# Altium schematic symbol library EE194_PCB.SchLib: 47 symbols
Pins are listed as number, name and electrical type; pins without a type are passive.

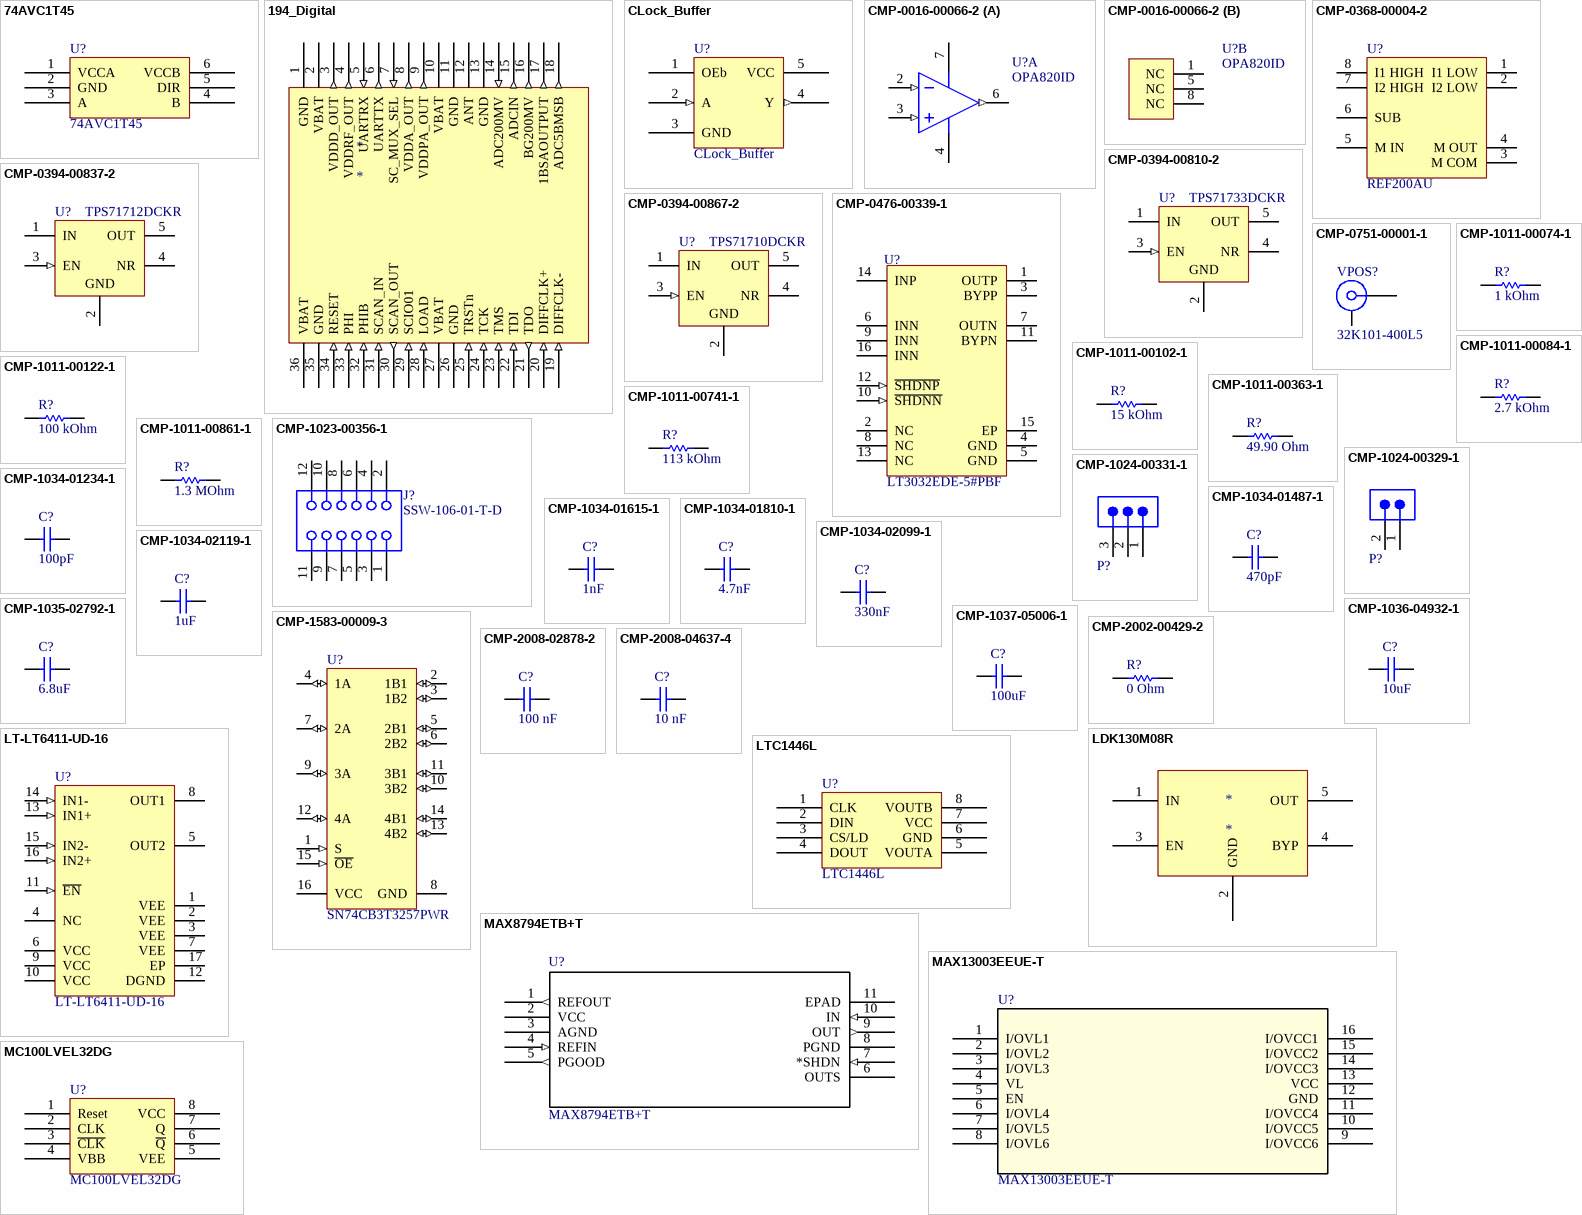
[diagram p0: symbols 74AVC1T45 to MC100LVEL32DG]

## 74AVC1T45
designator U?
footprint ONSC-SC-88-6-419B-02_L (SOT363, 6-Leads, Body 2x1.25mm, Pitch 0.65mm, IPC High Density)
pins: 1 VCCA, 2 GND, 3 A, 4 B, 5 DIR, 6 VCCB

## 194_Digital
designator *
pins: 1 GND (power), 2 VBAT (power), 3 VDDD_OUT (out), 4 VDDRF_OUT (out), 5 UARTRX (in), 6 UARTTX (out), 7 SC_MUX_SEL (in), 8 VDDA_OUT (out), 9 VDDPA_OUT (out), 10 VBAT (power), 11 GND (power), 12 ANT, 13 GND (power), 14 ADC200MV (in), 15 ADCIN (out), 16 BG200MV (out), 17 1BSAOUTPUT (out), 18 ADC5BMSB (out), 19 DIFFCLK- (in), 20 DIFFCLK+ (in), 21 TDO (out), 22 TDI (in), 23 TMS (in), 24 TCK (in), 25 TRSTn (in), 26 GND (power), 27 VBAT (power), 28 LOAD (in), 29 SCIO01 (in), 30 SCAN_OUT (out), 31 SCAN_IN (in), 32 PHIB (in), 33 PHI (in), 34 RESET (in), 35 GND (power), 36 VBAT (power)

## CLock_Buffer
designator U?
footprint SOT95P245X110-5N (SOT23, 5-Leads, Body 2.90x2.45mm, Pitch 0.95mm, IPC Medium Density)
pins: 1 OEb, 2 A (in), 3 GND, 4 Y (out), 5 VCC

## CMP-0016-00066-2
designator U?, comment OPA820ID
Unity Gain Stable, Low Noise, Voltage Feedback Operational Amplifier, 5 to 12 V, -40 to 85 degC, 8-pin SOIC (D8), Green (RoHS & no Sb/Br); Manufacturer: Texas Instruments; Iq per channel(Max)(mA): 6.4; Diff Gain(%): 0.01; THD (Fc is 1 MHz)(Typ)(dB): -85; BW @ Acl(MHz): 700; Vio(Max)(mV): 1; Sub Family: High Output Current Amplifier (>=50mA), High Speed Amplifier (>=50MHz); Iib(Max)(nA): 2300; 3rd Harmonic(dBc): 110; Slew Rate(Typ)(V/us): 240; Vs(Min)(V): 5; Vs(Max)(V): 12; Diff Phase(deg): 0.03; Vn at Flatband(Typ)(nV/rtHz): 2.5; 2nd Harmonic(dBc): 90; Settling Time (0.1%)(Typ)(ns): 26; ComponentLink3URL: http://www.ti.com/litv/pdf/msoi002j; ComponentLink2URL: http://www.ti.com/general/docs/lit/getliterature.tsp?genericPartNumber=OPA820&fileType=pdf; ComponentLink2Description: Datasheet; Code_JEDEC: MS-012; PackageDescription: 8-Pin Plastic Small Outline, Body 4.9 x 3.9 mm, Pitch 1.27 mm; DatasheetVersion: SBOS303C; Acl, min stable gain(V/V): 1; Io(Typ)(mA): 110; PackageReference: D0008A; PartNumber: OPA820ID; Number of Channels: 1; @ MHz: 1; ComponentLink1URL: http://www.ti.com/; PackageVersion: 4040047-3/M, 06/2011; ComponentLink1Description: Manufacturer URL; ComponentLink3Description: Package Specification; Eco-Plan: Green (RoHS & no Sb/Br); Mounting Technology: Surface Mount
footprint D0008A_N (SOIC, 8-Leads, Body 5x4mm, Pitch 1.27mm, IPC Medium Density)
footprint D0008A_L (SOIC, 8-Leads, Body 5x4mm, Pitch 1.27mm, IPC High Density)
footprint D0008A_M (SOIC, 8-Leads, Body 5x4mm, Pitch 1.27mm, IPC Low Density)
part A pins: 2 IN- (in), 3 IN+ (in), 4 VS- (power), 6 OUT (out), 7 VS+ (power)
part B pins: 1 NC, 5 NC, 8 NC

## CMP-0368-00004-2
designator U?, comment REF200AU
Dual Current Source / Current Sink, 2.5 to 40 V, 0.1 mA, -25 to 85 degC, 8-pin SOIC (D), Green (RoHS & no Sb/Br); Manufacturer: Texas Instruments; Iout/Iz(Max)(mA): 0.1; VI(Min)(V): 2.5; VI(Max)(V): 40; SubFamily: Current Reference; Code_JEDEC: MS-012; ComponentLink3URL: http://www.ti.com/litv/pdf/msoi002j; ComponentLink3Description: Package Specification; ComponentLink2Description: Datasheet; PartNumber: REF200AU; DatasheetVersion: SBVS020; ComponentLink2URL: http://www.ti.com/general/docs/lit/getliterature.tsp?genericPartNumber=REF200&fileType=pdf; ComponentLink1Description: Manufacturer URL; PackageVersion: 4040047-3/M; PackageReference: D0008A; ComponentLink1URL: http://www.ti.com/; PackageDescription: 8-Pin Plastic Small Outline, Body 4.9 x 3.9 mm, Pitch 1.27 mm; Eco-Plan: Green (RoHS & no Sb/Br); Mounting Technology: Surface Mount
footprint D0008A_M (SOIC, 8-Leads, Body 5x4mm, Pitch 1.27mm, IPC Low Density)
footprint D0008A_L (SOIC, 8-Leads, Body 5x4mm, Pitch 1.27mm, IPC High Density)
footprint D0008A_N (SOIC, 8-Leads, Body 5x4mm, Pitch 1.27mm, IPC Medium Density)
pins: 1 I1 LOW, 2 I2 LOW, 3 M COM, 4 M OUT, 5 M IN, 6 SUB, 7 I2 HIGH, 8 I1 HIGH

## CMP-0394-00810-2
designator U?, comment TPS71733DCKR
Single Output High PSRR LDO, 150 mA, Fixed 3.3 V Output, 2.5 to 6.5 V Input, with Low IQ, 5-pin SC70 (DCK), -40 to 85 degC, Green (RoHS & no Sb/Br); Manufacturer: Texas Instruments; SubFamily: Single Channel LDO; Vin(Min)(V): 2.5; Iq(Typ)(mA): 0.05; Iout(Max)(A): 0.15; Accuracy(%): 3; Vin(Max)(V): 6.5; Vout Adj(Max)(V): 3.3; Vdo(Typ)(mV): 170; ComponentLink2URL: http://www.ti.com/general/docs/lit/getliterature.tsp?genericPartNumber=TPS71733&fileType=pdf; ComponentLink3URL: http://www.ti.com/litv/pdf/mpds025f; Code_JEDEC: MO-203; PackageReference: DCK0005A; ComponentLink2Description: Datasheet; Mounting Technology: Surface Mount; PackageVersion: 4093553-3/G; PartNumber: TPS71733DCKR; ComponentLink1Description: Manufacturer URL; PackageDescription: 5-Pin Plastic Small-Outline, Body 2 x 1.25 mm, Pitch 0.65 mm; ComponentLink1URL: http://www.ti.com/; ComponentLink3Description: Package Specification; Vout Adj(Min)(V): 3.3; DatasheetVersion: SBVS068G; Eco-Plan: Green (RoHS & no Sb/Br); Fixed Output Options(V): 3.3
footprint DCK0005A_N (SOT23, 5-Leads, Body 2.15x1.4mm, Pitch 0.65mm, IPC Medium Density)
footprint DCK0005A_M (SOT23, 5-Leads, Body 2.15x1.4mm, Pitch 0.65mm, IPC Low Density)
footprint DCK0005A_L (SOT23, 5-Leads, Body 2.15x1.4mm, Pitch 0.65mm, IPC High Density)
pins: 1 IN (power) "Input supply.", 2 GND (power) "Ground.", 3 EN (in) "Driving the enable pin (EN) high turns on the regulator .Driving this pin low puts the regulator into shutdown mode.EN can be connected to IN if not used.", 4 NR "Fixed voltage versions only; connecting an external capacitor to this pin bypasses noise generated by the internal bandgap. This capacitor allows output noise to be reduced to very low levels.", 5 OUT (power) "Output for the regulator. A small capacitor (total typical capacitance >= 2.0uF ceramic) is needed from this pin to ground to assure stability."

## CMP-0394-00837-2
designator U?, comment TPS71712DCKR
Single Output High PSRR LDO, 150 mA, Fixed 1.2 V Output, 2.5 to 6.5 V Input, 5-pin SC70 (DCK), -40 to 125 degC, Green (RoHS & no Sb/Br); Manufacturer: Texas Instruments; Accuracy(%): 3; Fixed Output Options(V): 1.2; Vin(Min)(V): 2.5; SubFamily: Single Channel LDO; Vin(Max)(V): 6.5; Iout(Max)(A): 0.15; Iq(Typ)(mA): 0.05; Vdo(Typ)(mV): 170; DatasheetVersion: SBVS068G; PackageReference: DCK0005A; PartNumber: TPS71712DCKR; ComponentLink3Description: Package Specification; Eco-Plan: Green (RoHS & no Sb/Br); ComponentLink2Description: Datasheet; PackageDescription: 5-Pin Plastic Small-Outline, Body 2 x 1.25 mm, Pitch 0.65 mm; ComponentLink1URL: http://www.ti.com/; ComponentLink1Description: Manufacturer URL; PackageVersion: 4093553-3/G; Vout Adj(Min)(V): 1.2; ComponentLink2URL: http://www.ti.com/general/docs/lit/getliterature.tsp?genericPartNumber=TPS71712&fileType=pdf; Vout Adj(Max)(V): 1.2; ComponentLink3URL: http://www.ti.com/litv/pdf/mpds025f; Mounting Technology: Surface Mount; Code_JEDEC: MO-203
footprint DCK0005A_L (SOT23, 5-Leads, Body 2.15x1.4mm, Pitch 0.65mm, IPC High Density)
footprint DCK0005A_N (SOT23, 5-Leads, Body 2.15x1.4mm, Pitch 0.65mm, IPC Medium Density)
footprint DCK0005A_M (SOT23, 5-Leads, Body 2.15x1.4mm, Pitch 0.65mm, IPC Low Density)
pins: 1 IN (power) "Input supply.", 2 GND (power) "Ground.", 3 EN (in) "Driving the enable pin (EN) high turns on the regulator .Driving this pin low puts the regulator into shutdown mode.EN can be connected to IN if not used.", 4 NR "Fixed voltage versions only; connecting an external capacitor to this pin bypasses noise generated by the internal bandgap. This capacitor allows output noise to be reduced to very low levels.", 5 OUT (power) "Output for the regulator. A small capacitor (total typical capacitance >= 2.0uF ceramic) is needed from this pin to ground to assure stability."

## CMP-0394-00867-2
designator U?, comment TPS71710DCKR
Single Output High PSRR LDO, 150 mA, Fixed 1 V Output, 2.5 to 6.5 V Input, with Low IQ, 5-pin SC70 (DCK), -40 to 85 degC, Green (RoHS & no Sb/Br); Manufacturer: Texas Instruments; Vin(Min)(V): 2.5; Accuracy(%): 3; Iq(Typ)(mA): 0.05; Vin(Max)(V): 6.5; Iout(Max)(A): 0.15; Vout Adj(Min)(V): 1; Vdo(Typ)(mV): 170; SubFamily: Single Channel LDO; ComponentLink3URL: http://www.ti.com/litv/pdf/mpds025f; Code_JEDEC: MO-203; ComponentLink1URL: http://www.ti.com/; ComponentLink2Description: Datasheet; DatasheetVersion: SBVS068G; PartNumber: TPS71710DCKR; PackageVersion: 4093553-3/G; ComponentLink2URL: http://www.ti.com/general/docs/lit/getliterature.tsp?genericPartNumber=TPS71710&fileType=pdf; Eco-Plan: Green (RoHS & no Sb/Br); ComponentLink1Description: Manufacturer URL; PackageReference: DCK0005A; Vout Adj(Max)(V): 1; Mounting Technology: Surface Mount; Fixed Output Options(V): 1; PackageDescription: 5-Pin Plastic Small-Outline, Body 2 x 1.25 mm, Pitch 0.65 mm; ComponentLink3Description: Package Specification
footprint DCK0005A_N (SOT23, 5-Leads, Body 2.15x1.4mm, Pitch 0.65mm, IPC Medium Density)
footprint DCK0005A_M (SOT23, 5-Leads, Body 2.15x1.4mm, Pitch 0.65mm, IPC Low Density)
footprint DCK0005A_L (SOT23, 5-Leads, Body 2.15x1.4mm, Pitch 0.65mm, IPC High Density)
pins: 1 IN (power) "Input supply.", 2 GND (power) "Ground.", 3 EN (in) "Driving the enable pin (EN) high turns on the regulator .Driving this pin low puts the regulator into shutdown mode.EN can be connected to IN if not used.", 4 NR "Fixed voltage versions only; connecting an external capacitor to this pin bypasses noise generated by the internal bandgap. This capacitor allows output noise to be reduced to very low levels.", 5 OUT (power) "Output for the regulator. A small capacitor (total typical capacitance >= 2.0uF ceramic) is needed from this pin to ground to assure stability."

## CMP-0476-00339-1
designator U?, comment LT3032EDE-5#PBF
Dual 150 mA Positive / Negative Low Noise Low Dropout Linear Regulator, +/-2.3 to +/-20 V Vin, +/-5 V Vout, 14-pin SON (DE14MA-14), -40 to 125 degC, Pb-Free; Manufacturer: Linear Technology; Noise(uV): 30; PSRR(dB): 68; Dropout Voltage(V): 0.3; Iout(mA): 150; Output Voltage: +/-5 V; Isupply(mA): 0.025; Shutdown Current(uA): 0.1; Number of Outputs: 2; Discrete Pass Element: no; ComponentLink2Description: Datasheet; Mounting Technology: Surface Mount; ComponentLink3Description: Package Specification; PackageDescription: 14-Pin Plastic DFN, Body 4 x 3 mm, Pitch 0.5 mm; ComponentLink3URL: http://cds.linear.com/docs/en/packaging/DFN_14_05-08-1731.pdf; ComponentLink2URL: http://cds.linear.com/docs/en/datasheet/3032fd.pdf; Vout Min(V): +/-5; Vout Max(V): +/-5; RoHS: TRUE; Vin Max(V): +/-20; PartNumber: LT3032EDE-5#PBF; ComponentLink1URL: http://www.linear.com/; DatasheetVersion: Rev. D; Vin Min(V): +/-2.3; ComponentLink1Description: Manufacturer URL; PackageVersion: Rev. A, 06/2010; PackageReference: DE14MA-14
footprint LT-DE14MA-14_V (DE14MA, 14-Leads, Body 4x3mm, Pitch 0.5mm)
pins: 1 OUTP (power) "Positive Output. This output supplies power to the positive side load. A minimum output capacitor of 2.2uF is required to prevent oscillations. Larger output capacitors are required for applications with large transient (See Datasheet)", 2 NC "No Connect. The No Connect pin has no connection to internal circuitry and may be tied to INP, GND, INN, S\H\D\N\P\, S\H\D\N\N\, OUTP, OUTN, floated, or tied to any other point.", 3 BYPP "Positive Bypass. The BYPP pin is used to bypass the reference of the positive side regulator to achieve low noise performance. The BYPP pin is clamped internally to +/-0.6V (one VBE). A small capacitor from OUTP to this pin (See Datasheet)", 4 GND (power) "Ground. One of the DFN's exposed backside pads (Pin 15) is an electrical connection to ground. To ensure proper electrical and thermal performance, solder Pin 15 to the PCB's ground and tie directly to Pins 4 and(See Datasheet)", 5 GND (power) "Ground. One of the DFN's exposed backside pads (Pin 15) is an electrical connection to ground. To ensure proper electrical and thermal performance, solder Pin 15 to the PCB's ground and tie directly to Pins 4 and(See Datasheet)", 6 INN (power) "Negative Input. The DFN package's second exposed backside pad (Pin 16) is an electrical connection to INN. To ensure proper electrical and thermal performance, solder Pin 16 to the PCB's negative input supply and (See Datasheet)", 7 OUTN (power) "Negative Output. This output supplies power to the negative side load. A minimum output capacitor of 1uF is required to prevent oscillations. Larger output capacitors are required for applications with large transient loads (See Datasheet)", 8 NC "No Connect. The No Connect pin has no connection to internal circuitry and may be tied to INP, GND, INN, S\H\D\N\P\, S\H\D\N\N\, OUTP, OUTN, floated, or tied to any other point.", 9 INN (power) "Negative Input. The DFN package's second exposed backside pad (Pin 16) is an electrical connection to INN. To ensure proper electrical and thermal performance, solder Pin 16 to the PCB's negative input supply and (See Datasheet)", 10 ~{SHDNN} (in) "Negative Shutdown. The S\H\D\N\N\ pin puts the negative side into a low power shutdown state. The S\H\D\N\N\ pin is referenced to ground for regulator control, allowing the negative side to be driven by either positive or (See Datasheet)", 11 BYPN "Negative Bypass. The BYPN pin is used to bypass the reference of the negative side regulator to achieve low noise performance. A small capacitor from OUTN to this pin will bypass the reference to lower the output voltage (See Datasheet)", 12 ~{SHDNP} (in) "Positive Shutdown. The S\H\D\N\P\ pin puts the positive side into a low power shutdown state. The positive output will be off when the S\H\D\N\P\ pin is pulled below 0.6V(typical). The S\H\D\N\P\ pin can be driven by 5V (See Datasheet)", 13 NC "No Connect. The No Connect pin has no connection to internal circuitry and may be tied to INP, GND, INN, S\H\D\N\P\, S\H\D\N\N\, OUTP, OUTN, floated, or tied to any other point.", 14 INP (power) "Positive Input. Power is supplied to the positive side of the LT3032 through the INP pin. A bypass capacitor is required on this pin if it is more than six inches away from the main input filter capacitor. In general, the (See Datasheet)", 15 EP (power) "Ground. One of the DFN's exposed backside pads (Pin 15) is an electrical connection to ground. To ensure proper electrical and thermal performance, solder Pin 15 to the PCB's ground and tie directly to Pins 4 and(See Datasheet)", 16 INN (power) "Negative Input. The DFN package's second exposed backside pad (Pin 16) is an electrical connection to INN. To ensure proper electrical and thermal performance, solder Pin 16 to the PCB's negative input supply and (See Datasheet)"

## CMP-0751-00001-1
designator VPOS?, comment 32K101-400L5
SMA Straight Jack, Up to 18 GHz, -55 to 155 degC; Manufacturer: Rosenberger; Design Note: Footprint in library is a generic example - only application specific footprint delivers High Performance; PartNumber: 32K101-400L5; PackageDescription: SMA Straight Jack, 6.35 x 6.35 x 9.5 mm; ComponentLink5URL: http://www.rosenberger.com/en/contact/sales/; DatasheetVersion: a00; ComponentLink3URL: http://rosenberger.de/ok/images/documents/db/32K101-400L5.pdf; ComponentLink4Description: Series Overview / Design Note; ComponentLink5Description: Webshop / RFQ; PackageReference: 32K101-400L5; ComponentLink2Description: Datasheet; PackageVersion: a00; ComponentLink1Description: Manufacturer URL; ComponentLink3Description: Package Specification; ComponentLink2URL: http://rosenberger.de/ok/images/documents/db/32K101-400L5.pdf; Mounting Technology: Through Hole; ComponentLink1URL: http://www.rosenberger.de; ComponentLink4URL: http://rosenberger.de/ok/images/documents/spez/32.pdf
footprint ROS-32K101-400L5_V (SMA Straight Jack, 6.35x6.35x9.5mm, Rosenberger Recommended)
pins: 1, MH

## CMP-1011-00074-1
designator R?, comment value 1 kOhm  (hidden comment: 1K 5% 0402(1005))
1K 0.063W 5% 0402 (1005 Metric)  SMD; Case-EIA: 0402; Case-Metric: 1005; Tolerance: 5 %; Power: 0.063 W; Technology: SMT
footprint RESC0402(1005)_L (Chip Resistor, Body 1.0x0.5mm, IPC High Density)
footprint RESC0402(1005)_N (Chip Resistor, Body 1.0x0.5mm, IPC Medium Density)
footprint RESC0402(1005)_M (Chip Resistor, Body 1.0x0.5mm, IPC Low Density)
pins: 1, 2
1 alternate drawing of the same symbol

## CMP-1011-00084-1
designator R?, comment value 2.7 kOhm  (hidden comment: 2K7 5% 0402(1005))
2K7 0.063W 5% 0402 (1005 Metric)  SMD; Case-EIA: 0402; Case-Metric: 1005; Technology: SMT; Tolerance: 5 %; Power: 0.063 W
footprint RESC0402(1005)_M (Chip Resistor, Body 1.0x0.5mm, IPC Low Density)
footprint RESC0402(1005)_L (Chip Resistor, Body 1.0x0.5mm, IPC High Density)
footprint RESC0402(1005)_N (Chip Resistor, Body 1.0x0.5mm, IPC Medium Density)
pins: 1, 2
1 alternate drawing of the same symbol

## CMP-1011-00102-1
designator R?, comment value 15 kOhm  (hidden comment: 15K 5% 0402(1005))
15K 0.063W 5% 0402 (1005 Metric)  SMD; Case-Metric: 1005; Case-EIA: 0402; Tolerance: 5 %; Technology: SMT; Power: 0.063 W
footprint RESC0402(1005)_N (Chip Resistor, Body 1.0x0.5mm, IPC Medium Density)
footprint RESC0402(1005)_M (Chip Resistor, Body 1.0x0.5mm, IPC Low Density)
footprint RESC0402(1005)_L (Chip Resistor, Body 1.0x0.5mm, IPC High Density)
pins: 1, 2
1 alternate drawing of the same symbol

## CMP-1011-00122-1
designator R?, comment value 100 kOhm  (hidden comment: 100K 5% 0402(1005))
100K 0.063W 5% 0402 (1005 Metric)  SMD; Case-EIA: 0402; Case-Metric: 1005; Power: 0.063 W; Technology: SMT; Tolerance: 5 %
footprint RESC0402(1005)_L (Chip Resistor, Body 1.0x0.5mm, IPC High Density)
footprint RESC0402(1005)_N (Chip Resistor, Body 1.0x0.5mm, IPC Medium Density)
footprint RESC0402(1005)_M (Chip Resistor, Body 1.0x0.5mm, IPC Low Density)
pins: 1, 2
1 alternate drawing of the same symbol

## CMP-1011-00363-1
designator R?, comment value 49.90 Ohm  (hidden comment: 49R9 1% 0402(1005))
49R9 0.063W 1% 0402 (1005 Metric)  SMD; Case-EIA: 0402; Case-Metric: 1005; Power: 0.063 W; Technology: SMT; Tolerance: 1 %
footprint RESC0402(1005)_N (Chip Resistor, Body 1.0x0.5mm, IPC Medium Density)
footprint RESC0402(1005)_L (Chip Resistor, Body 1.0x0.5mm, IPC High Density)
footprint RESC0402(1005)_M (Chip Resistor, Body 1.0x0.5mm, IPC Low Density)
pins: 1, 2
1 alternate drawing of the same symbol

## CMP-1011-00741-1
designator R?, comment value 113 kOhm  (hidden comment: 113K 1% 0402(1005))
113K 0.063W 1% 0402 (1005 Metric)  SMD; Case-Metric: 1005; Case-EIA: 0402; Technology: SMT; Tolerance: 1 %; Power: 0.063 W
footprint RESC0402(1005)_L (Chip Resistor, Body 1.0x0.5mm, IPC High Density)
footprint RESC0402(1005)_M (Chip Resistor, Body 1.0x0.5mm, IPC Low Density)
footprint RESC0402(1005)_N (Chip Resistor, Body 1.0x0.5mm, IPC Medium Density)
pins: 1, 2
1 alternate drawing of the same symbol

## CMP-1011-00861-1
designator R?, comment value 1.3 MOhm  (hidden comment: 1M3 1% 0402(1005))
1M3 0.063W 1% 0402 (1005 Metric)  SMD; Case-Metric: 1005; Case-EIA: 0402; Technology: SMT; Power: 0.063 W; Tolerance: 1 %
footprint RESC0402(1005)_M (Chip Resistor, Body 1.0x0.5mm, IPC Low Density)
footprint RESC0402(1005)_L (Chip Resistor, Body 1.0x0.5mm, IPC High Density)
footprint RESC0402(1005)_N (Chip Resistor, Body 1.0x0.5mm, IPC Medium Density)
pins: 1, 2
1 alternate drawing of the same symbol

## CMP-1023-00356-1
designator J?, comment SSW-106-01-T-D
SQ Post Socket, Through-hole, Vertical, -55 to 105 degC, 2.54mm Pitch, 12-Pin, Female, RoHS; Manufacturer: Samtec; ComponentLink1Description: Manufacturer URL; RoHS: True; Mounting Technology: Through-hole; ComponentLink1URL: http://www.samtec.com; PackageVersion: CA, 6/1987; DatasheetVersion: F-214; PackageReference: SSW-106-01-X-D; Temperature Range: -55 to 105 degC; PartNumber: SSW-106-01-T-D; ComponentLink3URL: http://www.samtec.com/documents/webfiles/cpdf/SSW-1XX-XX-XXX-X-XX-XXX-XX-MKT.pdf; ComponentLink2URL: http://www.samtec.com/documents/webfiles/pdf/SSW_TH.PDF; Pitch: 2.54 mm; Orientation: Vertical; ComponentLink3Description: Package Specification; ComponentLink2Description: Datasheet; PackageDescription: Assembly, Socket Strip .016 X .031 Tail
footprint SMTC-SSW-106-01-X-D (SQ Post Socket, 2x6 Pins, Vertical, 2.54mm Pitch, Female)
pins: 1, 2, 3, 4, 5, 6, 7, 8, 9, 10, 11, 12

## CMP-1024-00329-1
designator P?, comment TSW-102-26-F-S  (value not drawn)
0.025" SQ Post Header, Through-hole, Vertical, -55 to 125 degC, 2.54 mm Pitch, 2-Pin, Male, RoHS; Manufacturer: Samtec; Pitch: 2.54 mm; PackageVersion: DM, 8/1988; ComponentLink2Description: Datasheet; PackageReference: TSW-102-26-XX-S; ComponentLink3URL: http://www.samtec.com/documents/webfiles/cpdf/TSW-XXX-XX-XXX-X-XX-XXX-MKT.pdf; ComponentLink2URL: http://www.samtec.com/documents/webfiles/pdf/TSW_TH.PDF; ComponentLink1Description: Manufacturer URL; DatasheetVersion: F-214; RoHS: True; ComponentLink3Description: Package Specification; PartNumber: TSW-102-26-F-S; Temperature Range: -55 to 125 degC; Orientation: Vertical; ComponentLink1URL: http://www.samtec.com; PackageDescription: .025[0.64] SQ. Post Terminal Strip Assembly; Mounting Technology: Through-hole
footprint SMTC-TSW-102-26-XX-S (.025 SQ Post Terminal Strip Assembly, 1x2 Pins, Vertical, 2.54mm Pitch, Male)
pins: 1, 2

## CMP-1024-00331-1
designator P?, comment TSW-103-07-F-S  (value not drawn)
0.025" SQ Post Header, Through-hole, Vertical, -55 to 125 degC, 2.54 mm Pitch, 3-Pin, Male, RoHS; Manufacturer: Samtec; Pitch: 2.54 mm; DatasheetVersion: F-214; ComponentLink1Description: Manufacturer URL; ComponentLink3URL: http://www.samtec.com/documents/webfiles/cpdf/TSW-XXX-XX-XXX-X-XX-XXX-MKT.pdf; Mounting Technology: Through-hole; PackageDescription: .025[0.64] SQ. Post Terminal Strip Assembly; Temperature Range: -55 to 125 degC; ComponentLink3Description: Package Specification; Orientation: Vertical; PartNumber: TSW-103-07-F-S; RoHS: True; PackageVersion: DM, 8/1988; ComponentLink2Description: Datasheet; ComponentLink1URL: http://www.samtec.com; ComponentLink2URL: http://www.samtec.com/documents/webfiles/pdf/TSW_TH.PDF; PackageReference: TSW-103-07-X-S
footprint SMTC-TSW-103-07-X-S (.025 SQ Post Terminal Strip Assembly, 1x3 Pins, Vertical, 2.54mm Pitch, Male)
pins: 1, 2, 3

## CMP-1034-01234-1
designator C?, comment value 100pF  (hidden comment: CAP 100pF 16V 0402(1005))
CAP 100pF 16V ±1% 0402 (1005 Metric) Thickness 0.6mm SMD; Case-Metric: 1005; Case-EIA: 0402; Tolerance: Â±1%; Rated Voltage: 16 V; Technology: SMT; Max Thickness: 0.6 mm
footprint CAPC0402(1005)60_L (Chip Capacitor, Body 1.0x0.5mm, Height 0.6mm, IPC High Density)
footprint CAPC0402(1005)60_N (Chip Capacitor, Body 1.0x0.5mm, Height 0.6mm, IPC Medium Density)
footprint CAPC0402(1005)60_M (Chip Capacitor, Body 1.0x0.5mm, Height 0.6mm, IPC Low Density)
pins: 1, 2
1 alternate drawing of the same symbol

## CMP-1034-01487-1
designator C?, comment value 470pF  (hidden comment: CAP 470pF 16V 0402(1005))
CAP 470pF 16V ±1% 0402 (1005 Metric) Thickness 0.6mm SMD; Tolerance: Â±1%; Case-EIA: 0402; Case-Metric: 1005; Technology: SMT; Max Thickness: 0.6 mm; Rated Voltage: 16 V
footprint CAPC0402(1005)60_M (Chip Capacitor, Body 1.0x0.5mm, Height 0.6mm, IPC Low Density)
footprint CAPC0402(1005)60_L (Chip Capacitor, Body 1.0x0.5mm, Height 0.6mm, IPC High Density)
footprint CAPC0402(1005)60_N (Chip Capacitor, Body 1.0x0.5mm, Height 0.6mm, IPC Medium Density)
pins: 1, 2
1 alternate drawing of the same symbol

## CMP-1034-01615-1
designator C?, comment value 1nF  (hidden comment: CAP 1nF 16V 0402(1005))
CAP 1nF 16V ±1% 0402 (1005 Metric) Thickness 0.6mm SMD; Case-EIA: 0402; Case-Metric: 1005; Tolerance: Â±1%; Technology: SMT; Max Thickness: 0.6 mm; Rated Voltage: 16 V
footprint CAPC0402(1005)60_L (Chip Capacitor, Body 1.0x0.5mm, Height 0.6mm, IPC High Density)
footprint CAPC0402(1005)60_M (Chip Capacitor, Body 1.0x0.5mm, Height 0.6mm, IPC Low Density)
footprint CAPC0402(1005)60_N (Chip Capacitor, Body 1.0x0.5mm, Height 0.6mm, IPC Medium Density)
pins: 1, 2
1 alternate drawing of the same symbol

## CMP-1034-01810-1
designator C?, comment value 4.7nF  (hidden comment: CAP 4.7nF 16V 0402(1005))
CAP 4.7nF 16V ±10% 0402 (1005 Metric) Thickness 0.6mm SMD; Case-Metric: 1005; Tolerance: Â±10%; Case-EIA: 0402; Technology: SMT; Max Thickness: 0.6 mm; Rated Voltage: 16 V
footprint CAPC0402(1005)60_N (Chip Capacitor, Body 1.0x0.5mm, Height 0.6mm, IPC Medium Density)
footprint CAPC0402(1005)60_M (Chip Capacitor, Body 1.0x0.5mm, Height 0.6mm, IPC Low Density)
footprint CAPC0402(1005)60_L (Chip Capacitor, Body 1.0x0.5mm, Height 0.6mm, IPC High Density)
pins: 1, 2
1 alternate drawing of the same symbol

## CMP-1034-02099-1
designator C?, comment value 330nF  (hidden comment: CAP 330nF 16V 0402(1005))
CAP 330nF 16V ±10% 0402 (1005 Metric) Thickness 0.6mm SMD; Case-Metric: 1005; Tolerance: Â±10%; Case-EIA: 0402; Max Thickness: 0.6 mm; Rated Voltage: 16 V; Technology: SMT
footprint CAPC0402(1005)60_N (Chip Capacitor, Body 1.0x0.5mm, Height 0.6mm, IPC Medium Density)
footprint CAPC0402(1005)60_M (Chip Capacitor, Body 1.0x0.5mm, Height 0.6mm, IPC Low Density)
footprint CAPC0402(1005)60_L (Chip Capacitor, Body 1.0x0.5mm, Height 0.6mm, IPC High Density)
pins: 1, 2
1 alternate drawing of the same symbol

## CMP-1034-02119-1
designator C?, comment value 1uF  (hidden comment: CAP 1uF 16V 0402(1005))
CAP 1uF 16V ±10% 0402 (1005 Metric) Thickness 0.6mm SMD; Case-EIA: 0402; Tolerance: Â±10%; Case-Metric: 1005; Technology: SMT; Rated Voltage: 16 V; Max Thickness: 0.6 mm
footprint CAPC0402(1005)60_M (Chip Capacitor, Body 1.0x0.5mm, Height 0.6mm, IPC Low Density)
footprint CAPC0402(1005)60_N (Chip Capacitor, Body 1.0x0.5mm, Height 0.6mm, IPC Medium Density)
footprint CAPC0402(1005)60_L (Chip Capacitor, Body 1.0x0.5mm, Height 0.6mm, IPC High Density)
pins: 1, 2
1 alternate drawing of the same symbol

## CMP-1035-02792-1
designator C?, comment value 6.8uF  (hidden comment: CAP 6.8uF 10V 0603(1608))
CAP 6.8uF 10V ±10% 0603 (1608 Metric) Thickness 1mm SMD; Case-EIA: 0603; Case-Metric: 1608; Tolerance: Â±10%; Technology: SMT; Max Thickness: 1 mm; Rated Voltage: 10 V
footprint CAPC0603(1608)100_N (Chip Capacitor, Body 1.6x0.8mm, Height 1.0mm, IPC Medium Density)
footprint CAPC0603(1608)100_L (Chip Capacitor, Body 1.6x0.8mm, Height 1.0mm, IPC High Density)
footprint CAPC0603(1608)100_M (Chip Capacitor, Body 1.6x0.8mm, Height 1.0mm, IPC Low Density)
pins: 1, 2
1 alternate drawing of the same symbol

## CMP-1036-04932-1
designator C?, comment value 10uF  (hidden comment: CAP 10uF 25V 0805(2012))
CAP 10uF 25V ±10% 0805 (2012 Metric) Thickness 1.45mm SMD; Case-EIA: 0805; Case-Metric: 2012; Tolerance: Â±10%; Technology: SMT; Rated Voltage: 25 V; Max Thickness: 1.45 mm
footprint CAPC0805(2012)145_N (Chip Capacitor, Body 2.0x1.2mm, Height 1.45mm, IPC Medium Density)
footprint CAPC0805(2012)145_L (Chip Capacitor, Body 2.0x1.2mm, Height 1.45mm, IPC High Density)
footprint CAPC0805(2012)145_M (Chip Capacitor, Body 2.0x1.2mm, Height 1.45mm, IPC Low Density)
pins: 1, 2
1 alternate drawing of the same symbol

## CMP-1037-05006-1
designator C?, comment value 100uF  (hidden comment: CAP 100uF 10V 1206(3216))
CAP 100uF 10V ±20% 1206 (3216 Metric) Thickness 1.9mm SMD; Case-EIA: 1206; Tolerance: Â±20%; Case-Metric: 3216; Max Thickness: 1.9 mm; Technology: SMT; Rated Voltage: 10 V
footprint CAPC1206(3216)190_L (Chip Capacitor, Body 3.2x1.6mm, Height 1.9mm, IPC High Density)
footprint CAPC1206(3216)190_M (Chip Capacitor, Body 3.2x1.6mm, Height 1.9mm, IPC Low Density)
footprint CAPC1206(3216)190_N (Chip Capacitor, Body 3.2x1.6mm, Height 1.9mm, IPC Medium Density)
pins: 1, 2
1 alternate drawing of the same symbol

## CMP-1583-00009-3
designator U?, comment SN74CB3T3257PWR
4-BIT 1-OF-2 FET MULT/DEMULT 2.5-V/3.3-V LOW-VOLTAGE BUS SWITCH WITH 5-V TOLERANT LEVEL SHIFTER, PW0016A, LARGE T&R; Manufacturer: Texas Instruments; Bandwidth(Max)(MHz): 100; Mux Configuration: 1：2; Technology Family: CB3T; Input Type: TTL/CMOS; Bits(#): 4; Voltage(Nom)(V): 2.5,3.3; Ron(Typ)(Ohms): 5; VCC(Max)(V): 3.6; Rating: Catalog; ICC @ Nom Voltage(Max)(mA): 0.02; Switch Configuration: SPDT; Ron(Max)(Ohms): 8; Additional Features: Low Power,5-3.3V Translation,IOFF; tpd @ Nom Voltage(Max)(ns): 0.15,0.25; Schmitt Trigger: No; VCC(Min)(V): 2.3; Operating Temperature Range(C): -40 to 85; Output Type: TTL/CMOS; Channels(#): 4; F @ Nom Voltage(Max)(Mhz): 100; Generic Part Number: SN74CB3T3257; DatasheetVersion: SCDS149; PackageReference: PW0016A
footprint PW0016A_N (SOP, 16-Leads, Body 5.1x4.5mm, Pitch 0.65mm, IPC Medium Density)
footprint PW0016A_M (SOP, 16-Leads, Body 5.1x4.5mm, Pitch 0.65mm, IPC Low Density)
footprint PW0016A_L (SOP, 16-Leads, Body 5.1x4.5mm, Pitch 0.65mm, IPC High Density)
pins: 1 S (in), 2 1B1 (io), 3 1B2 (io), 4 1A (io), 5 2B1 (io), 6 2B2 (io), 7 2A (io), 8 GND (power), 9 3A (io), 10 3B2 (io), 11 3B1 (io), 12 4A (io), 13 4B2 (io), 14 4B1 (io), 15 ~{OE} (in), 16 VCC (power)

## CMP-2002-00429-2
designator R?, comment Resistance: 0 Ohm  (hidden comment: ERJ-2GE0R00X)
Chip Resistor, 0 Ohm, +/- 5%, 100 mW, -55 to 155 degC, 0402 (1005 Metric), RoHS, Tape and Reel; Power Rating: 100 mW; Voltage Rating: 50 V; Max Operating Temperature: 155 degC; Tolerance: 5%; PartNumber: ERJ-2GE0R00X; Case Code (Imperial): 0402; Package Quantity: 10000; Length: 1 mm; Mounting Technology: Surface Mount; ComponentLink1URL: http://industrial.panasonic.com/cdbs/www-data/pdf/RDA0000/AOA0000C84.pdf; Height: 0.35 mm; Width: 0.5 mm; Min Operating Temperature: -55 degC; Case Code (Metric): 1005; RoHSCompliant: True; REACH SVHC: Unknown; ComponentLink1Description: Datasheet; Packaging: Tape and Reel; Mount: Surface Mount; PackageDescription: 2-Pin Surface Mount Device, Body 1 x 0.5 mm; Case/Package: 0402
footprint RESC1005X40X25NL05T05 (Chip Resistor, 2-Leads, Body 1.00x0.50mm, IPC Medium Density)
footprint RESC1005X40X25LL05T05 (Chip Resistor, 2-Leads, Body 1.00x0.50mm, IPC High Density)
footprint RESC1005X40X25ML05T05 (Chip Resistor, 2-Leads, Body 1.00x0.50mm, IPC Low Density)
pins: 1, 2
1 alternate drawing of the same symbol

## CMP-2008-02878-2
designator C?, comment Capacitance: 100 nF  (hidden comment: 0402ZD104KAT2A)
Chip Capacitor, 0.1 uF, +/- 10%, 10 V, -55 to 85 degC, 0402 (1005 Metric), RoHS, Tape and Reel; Voltage Rating: 10 V; Case\Package: 0402; Type (Capacitors): X5R; Min Operating Temperature: -55 degC; Max Operating Temperature: 85 degC; ComponentLink2URL: http://datasheets.avx.com/cx5r.pdf; Packaging: Cut Tape; Tolerance: 10%; Pins: 2; Case Code (Imperial): 0402; PackageDescription: 2-Pin Surface Mount Device, Body 1 x 0.5 mm; ComponentLink1Description: Manufacturer URL; DatasheetVersion: 05/2016; Width: 0.5 mm; ComponentLink1URL: http://www.avx.com/; Length: 1 mm; Package Quantity: 1; PackageReference: 0402; Mount: Surface Mount; Radiation Hardening: No; REACH SVHC: No SVHC; Mounting Technology: Surface Mount; ComponentLink2Description: Datasheet; RoHSCompliant: true; Case Code (Metric): 1005; Height: 0.56 mm; Voltage Rating (DC): 10 V
footprint CAPC1005X56X25LL10T15 (Chip Capacitor, 2-Leads, Body 1.10x0.60mm, IPC High Density)
footprint CAPC1005X56X25ML10T15 (Chip Capacitor, 2-Leads, Body 1.10x0.60mm, IPC Low Density)
footprint CAPC1005X56X25NL10T15 (Chip Capacitor, 2-Leads, Body 1.10x0.60mm, IPC Medium Density)
pins: 1, 2

## CMP-2008-04637-4
designator C?, comment Capacitance: 10 nF  (hidden comment: GRM155R71H103KA88D)
Chip Capacitor, 10 nF, +/- 10%, 50 V, -55 to 125 degC, 0402 (1005 Metric), RoHS, Tape and Reel; Manufacturer: Basic Passives; Case\/Package: 0402; Voltage Rating: 50 V; Type (Capacitors): X7R; DatasheetVersion: 02/2016; Mount: Surface Mount; Max Operating Temperature: 125 degC; ComponentLink1Description: Manufacturer URL; Package Quantity: 10000; Mounting Technology: Surface Mount; Radiation Hardening: No; Lead Pitch: 2mm; Length: 1 mm; Tolerance: 10%; Voltage Rating (DC): 50 V; Case Code (Metric): 1005; Packaging: Tape and Reel; Pins: 2; Width: 0.5 mm; PackageDescription: 2-Pin Surface Mount Device, Body 1 x 0.5 mm; ComponentLink1URL: http://www.murata.com/; PartNumber: GRM155R71H103KA88D; Min Operating Temperature: -55 degC; Height: 0.5 mm; RoHSCompliant: true; Case Code (Imperial): 0402; ComponentLink2URL: http://search.murata.co.jp/Ceramy/image/img/A01X/G101/ENG/GRM155R71H103KA88-01.pdf; ComponentLink2Description: Datasheet; PackageReference: 0402; REACH SVHC: No SVHC
footprint CAPC1005X55X25LL05T10 (Chip Capacitor, 2-Leads, Body 1.05x0.55mm, IPC High Density)
footprint CAPC1005X55X25NL05T10 (Chip Capacitor, 2-Leads, Body 1.05x0.55mm, IPC Medium Density)
footprint CAPC1005X55X25ML05T10 (Chip Capacitor, 2-Leads, Body 1.05x0.55mm, IPC Low Density)
pins: 1, 2

## LDK130M08R
designator *
300 mA low quiescent current very low noise LDO (800mV)
footprint SOT95P290X145-5N
pins: 1 IN, 2 GND, 3 EN, 4 BYP, 5 OUT

## LT-LT6411-UD-16
designator U?
footprint LT-UD-16_L (QFN, 16-Leads, Body 3x3mm, Pitch 0.5mm, Thermal Pad 1.45x1.45mm, IPC High Density)
pins: 1 VEE (power) "Negative Supply Voltage. VEE pins are not internally connected to each other and must all be connected externally. Proper supply bypassing is necessary for best performance. See the Applications Information section.", 2 VEE (power) "Negative Supply Voltage. VEE pins are not internally connected to each other and must all be connected externally. Proper supply bypassing is necessary for best performance. See the Applications Information section.", 3 VEE (power) "Negative Supply Voltage for Output Stage. VEE pins are not internally connected to each other and must all be connected externally. Proper supply bypassing is necessary for best performance. See the Applications Information (See Datasheet)", 4 NC "This pin is not internally connected.", 5 OUT2 (hiz) "Output of Channel 2. The gain between the input and the output of this channel is set by the connection of the channel 2 input pins. See Table 1 in Applications Information for details.", 6 VCC (power) "Positive Supply Voltage for Output Stage. VCC pins are not internally connected to each other and must all be connected externally. Proper supply bypassing is necessary for best performance. See the Applications Information (See Datasheet)", 7 VEE (power) "Negative Supply Voltage for Output Stage. VEE pins are not internally connected to each other and must all be connected externally. Proper supply bypassing is necessary for best performance. See the Applications Information (See Datasheet)", 8 OUT1 (hiz) "Output of Channel 1. The gain between the input and the output of this channel is set by the connection of the channel 1 input pins. See Table 1 in Applications Information for details.", 9 VCC (power) "Positive Supply Voltage for Output Stage. VCC pins are not internally connected to each other and must all be connected externally. Proper supply bypassing is necessary for best performance. See the Applications Information (See Datasheet)", 10 VCC (power) "Positive Supply Voltage. VCC pins are not internally connected to each other and must all be connected externally. Proper supply bypassing is necessary for best performance. See the Applications Information section.", 11 ~{EN} (in) "Enable Control Pin. An internal pull-up resistor of 46k will turn the part off if the pin is allowed to fl oat and defi nes the pin’s impedance. When the pin is pulled low, the part is enabled.", 12 DGND (power) "Digital Ground Reference for Enable Pin. This pin is normally connected to ground.", 13 IN1+ (in) "Channel 1 Positive Input. This pin has a nominal impedance of 400k ohm and does not have an internal termination resistor.", 14 IN1- (in) "This pin connects to the internal resistor network of the channel 1 amplifier, connecting by a 370ohm resistor to the inverting input.", 15 IN2- (in) "This pin connects to the internal resistor network of the channel 2 amplifier, connecting by a 370ohm resistor to the inverting input.", 16 IN2+ (in) "Channel 2 Positive Input. This pin has a nominal impedance of 400k ohm and does not have an internal termination resistor.", 17 EP (power) "The pad is internally connected to VEE (Pin 1). If split supplies are used, do not tie the pad to ground."

## LTC1446L
designator U?
footprint 8-SOIC (SOIC, 8-Leads, Body 4.9x3.9mm, Pitch 1.27mm, IPC Low Density)
pins: 1 CLK, 2 DIN, 3 CS/LD, 4 DOUT, 5 VOUTA, 6 GND, 7 VCC, 8 VOUTB

## MAX8794ETB+T
designator U?
Imported; Vendor: MAXIM; Manufacturer_Part_Number: max8794etb+t; RefDes: RefDes; Type: Type; Value: Value
footprint 21-0137I_T1033-1
pins: 1 REFOUT (out), 2 VCC (power), 3 AGND (power), 4 REFIN (in), 5 PGOOD (out), 6 OUTS, 7 *SHDN (in), 8 PGND (power), 9 OUT (out), 10 IN (in), 11 EPAD

## MAX13003EEUE-T
designator U?
Imported; Vendor: Maxim; Manufacturer_Part_Number: MAX13003EEUE-T; Manufacturer_Name: Maxim; RefDes: RefDes; Type: Type; Value: Value
footprint 21-0066J_16
pins: 1 I/OVL1, 2 I/OVL2, 3 I/OVL3, 4 VL (power), 5 EN, 6 I/OVL4, 7 I/OVL5, 8 I/OVL6, 9 I/OVCC6, 10 I/OVCC5, 11 I/OVCC4, 12 GND (power), 13 VCC (power), 14 I/OVCC3, 15 I/OVCC2, 16 I/OVCC1

## MC100LVEL32DG
designator U?
footprint 8-SOIC (SOIC, 8-Leads, Body 4.9x3.9mm, Pitch 1.27mm, IPC Low Density)
pins: 1 Reset, 2 CLK, 3 ~{CLK}, 4 VBB, 5 VEE, 6 ~{Q}, 7 Q, 8 VCC

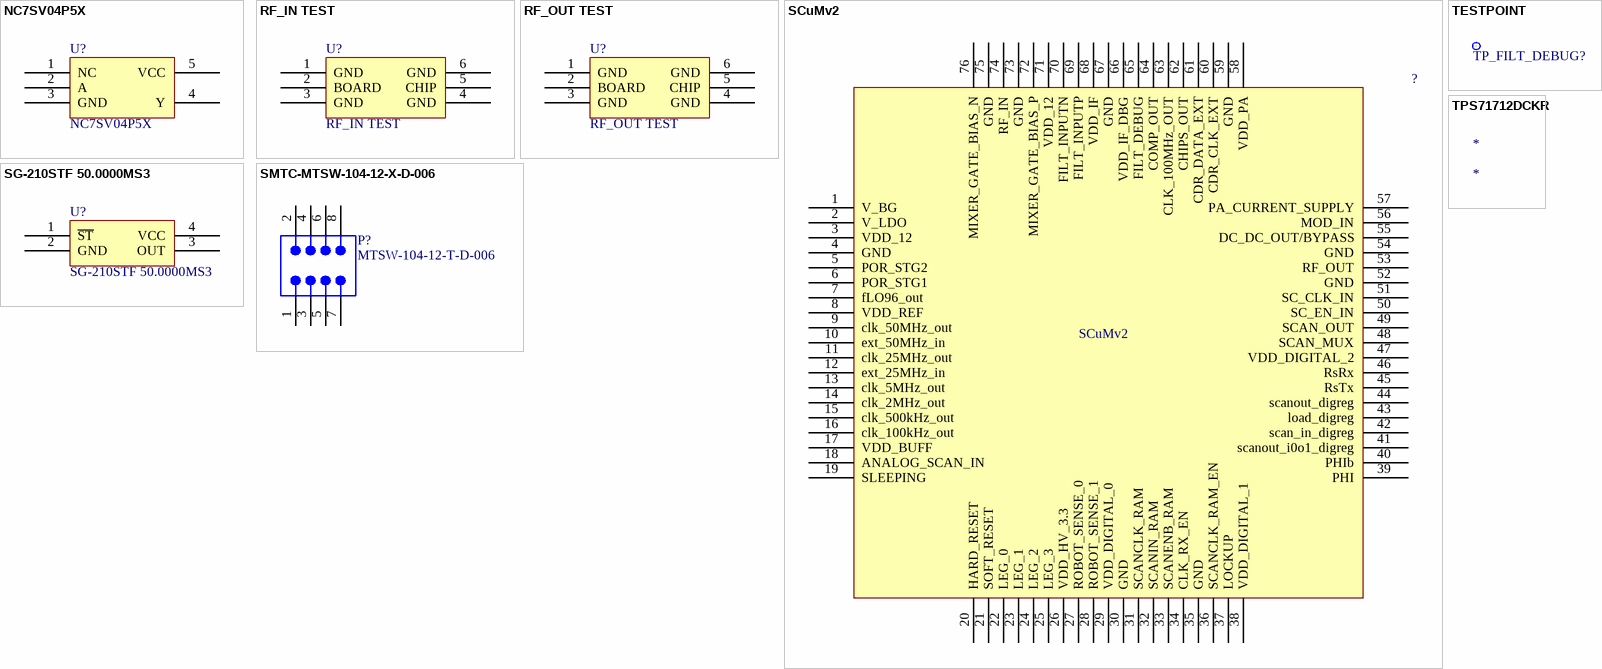
[diagram p1: symbols NC7SV04P5X to TPS71712DCKR]

## NC7SV04P5X
designator U?
footprint SC70-5L (SC70, 5-Leads, Body 2.20x2.7mm, Pitch 0.65mm)
pins: 1 NC, 2 A, 3 GND, 4 Y, 5 VCC

## RF_IN TEST
designator U?
footprint RF_IN TEST
pins: 1 GND, 2 BOARD, 3 GND, 4 GND, 5 CHIP, 6 GND

## RF_OUT TEST
designator U?
footprint RF_OUT TEST
pins: 1 GND, 2 BOARD, 3 GND, 4 GND, 5 CHIP, 6 GND

## SCuMv2
designator ?
footprint SCuMv2
pins: 1 V_BG, 2 V_LDO, 3 VDD_12, 4 GND, 5 POR_STG2, 6 POR_STG1, 7 fLO96_out, 8 VDD_REF, 9 clk_50MHz_out, 10 ext_50MHz_in, 11 clk_25MHz_out, 12 ext_25MHz_in, 13 clk_5MHz_out, 14 clk_2MHz_out, 15 clk_500kHz_out, 16 clk_100kHz_out, 17 VDD_BUFF, 18 ANALOG_SCAN_IN, 19 SLEEPING, 20 HARD_RESET, 21 SOFT_RESET, 22 LEG_0, 23 LEG_1, 24 LEG_2, 25 LEG_3, 26 VDD_HV_3.3, 27 ROBOT_SENSE_0, 28 ROBOT_SENSE_1, 29 VDD_DIGITAL_0, 30 GND, 31 SCANCLK_RAM, 32 SCANIN_RAM, 33 SCANENB_RAM, 34 CLK_RX_EN, 35 GND, 36 SCANCLK_RAM_EN, 37 LOCKUP, 38 VDD_DIGITAL_1, 39 PHI, 40 PHIb, 41 scanout_i0o1_digreg, 42 scan_in_digreg, 43 load_digreg, 44 scanout_digreg, 45 RsTx, 46 RsRx, 47 VDD_DIGITAL_2, 48 SCAN_MUX, 49 SCAN_OUT, 50 SC_EN_IN, 51 SC_CLK_IN, 52 GND, 53 RF_OUT, 54 GND, 55 DC_DC_OUT/BYPASS, 56 MOD_IN, 57 PA_CURRENT_SUPPLY, 58 VDD_PA, 59 GND, 60 CDR_CLK_EXT, 61 CDR_DATA_EXT, 62 CHIPS_OUT, 63 CLK_100MHz_OUT, 64 COMP_OUT, 65 FILT_DEBUG, 66 VDD_IF_DBG, 67 GND, 68 VDD_IF, 69 FILT_INPUTP, 70 FILT_INPUTN, 71 VDD_12, 72 MIXER_GATE_BIAS_P, 73 GND, 74 RF_IN, 75 GND, 76 MIXER_GATE_BIAS_N

## SG-210STF 50.0000MS3
designator U?
footprint SMD-4, No Lead (DFN, LCC) (SMD, 4-Leads, Body 2.5x2mm, Height 0.9mm)
pins: 1 ~{ST}, 2 GND, 3 OUT, 4 VCC

## SMTC-MTSW-104-12-X-D-006
designator P?, comment MTSW-104-12-T-D-006
Modified .025" SQ Post Header, Through-hole, Vertical, -55 to 105 degC, 2.54 mm Pitch, 8-Pin, Male, RoHS; Manufacturer: Samtec; Pitch: 2.54 mm; ComponentLink3URL: http://www.samtec.com/documents/webfiles/cpdf/MTSW-XXX-XX-X-X-XXXX-XX-XXX-MKT1.pdf; Temperature Range: -55 to 105 degC; Orientation: Vertical; ComponentLink1URL: http://www.samtec.com; PackageDescription: Assembly .025" [.64] SQ Post Terminal Strip; ComponentLink3Description: Package Specification; ComponentLink2URL: http://www.samtec.com/documents/webfiles/pdf/MTSW.PDF; ComponentLink2Description: Datasheet; PackageReference: MTSW-104-12-X-D-006; DatasheetVersion: F-214; PartNumber: MTSW-104-12-T-D-006; Mounting Technology: Through-hole; RoHS: True; PackageVersion: BI, 2/1987; ComponentLink1Description: Manufacturer URL
footprint SMTC-MTSW-104-12-X-D-006 (Assembly .025" [.64] SQ Post Terminal Strip, 2x4 Pins, Vertical, 2.54mm Pitch, Male)
pins: 1, 2, 3, 4, 5, 6, 7, 8

## TESTPOINT
designator TP_FILT_DEBUG?  (value not drawn)  (no BOM)
Testpoint FLP 0,3mm
footprint PCBComponent_1
pins: 0

## TPS71712DCKR
designator *